# EAGLE library part A6280EESTR-T (library Allegro_By_element14_Batch_1)
3-Channel Constant-Current LED Driver
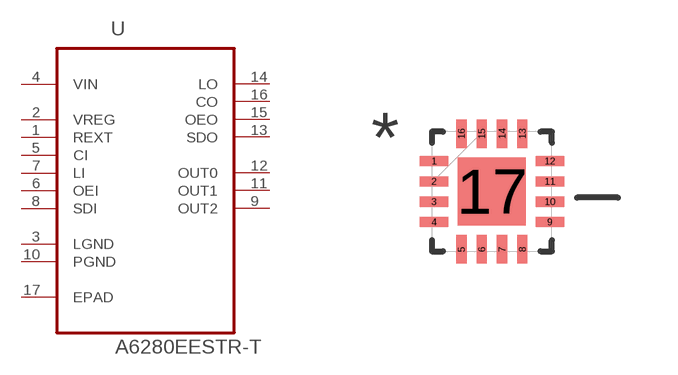
[diagram p23: symbol with the pads of QFN50P300X300X75-17N; footprint QFN50P300X300X75-17N]

Designator prefix U

## A6280EESTR-T (MPN: A6280EESTR-T; OC_FARNELL: 1325029; OC_NEWARK: 19M5479; PACKAGE: QFN-16; SUPPLIER: ALLEGRO MICROSYSTEMS)  [QFN50P300X300X75-17N]
1  REXT  pas
2  VREG  in
3  LGND  pas
4  VIN  pwr
5  CI  in
6  OEI  in
7  LI  in
8  SDI  in
9  OUT2  out
10  PGND  pas
11  OUT1  out
12  OUT0  out
13  SDO
14  LO  out
15  OEO  out
16  CO  out
17  EPAD  pas

## Footprint QFN50P300X300X75-17N (pad centres in mm)
smd 0.711 x 0.254: 1 -1.448,0.762; 2 -1.448,0.254; 3 -1.448,-0.254; 4 -1.448,-0.762; 9 1.448,-0.762; 10 1.448,-0.254; 11 1.448,0.254; 12 1.448,0.762
smd 0.254 x 0.711: 5 -0.762,-1.448; 6 -0.254,-1.448; 7 0.254,-1.448; 8 0.762,-1.448; 13 0.762,1.448; 14 0.254,1.448; 15 -0.254,1.448; 16 -0.762,1.448
smd 1.702 x 1.702: 17 0,0